# Altium schematic symbol library BQ24074RGTR.SchLib: 1 symbol
Pins are listed as number, name and electrical type; pins without a type are passive.

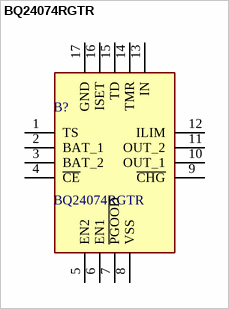
[diagram p0: symbol BQ24074RGTR]

## BQ24074RGTR
designator B?
USB-Friendly Li-Ion Battery Charger and Power-Path Management IC, 10.5V OVP; Manufacturer_Name: Texas Instruments; Geometry.Height: 1mm; Manufacturer_Part_Number: BQ24074RGTR; Mouser Part Number: 595-BQ24074RGTR; Mouser Price/Stock: https://www.mouser.co.uk/ProductDetail/Texas-Instruments/BQ24074RGTR?qs=ZV%2Fxhq4oszp2Nll7fIx5wg%3D%3D; Arrow Part Number: BQ24074RGTR; Arrow Price/Stock: https://www.arrow.com/en/products/bq24074rgtr/texas-instruments?utm_currency=USD&region=nac; Datasheet Link: http://www.ti.com/lit/ds/symlink/bq24074.pdf
footprint QFN50P300X300X100-17N-D
pins: 1 TS, 2 BAT_1, 3 BAT_2, 4 ~{CE}, 5 EN2, 6 EN1, 7 ~{PGOOD}, 8 VSS, 9 ~{CHG}, 10 OUT_1, 11 OUT_2, 12 ILIM, 13 IN, 14 TMR, 15 TD, 16 ISET, 17 GND